# Altium footprint library CNCPowerSupply.PcbLib: 61 footprints (part 1 of 4)
Each footprint in its own frame and in the unit in brackets; x right, y up, seen from the top. Pads: shape width x height; smd on the part's side, far side on the other; paste and mask are expansions set on the pad; w line width, h text height; cw(c..) or ccw(c..) is an arc to the next point about the centre after c.
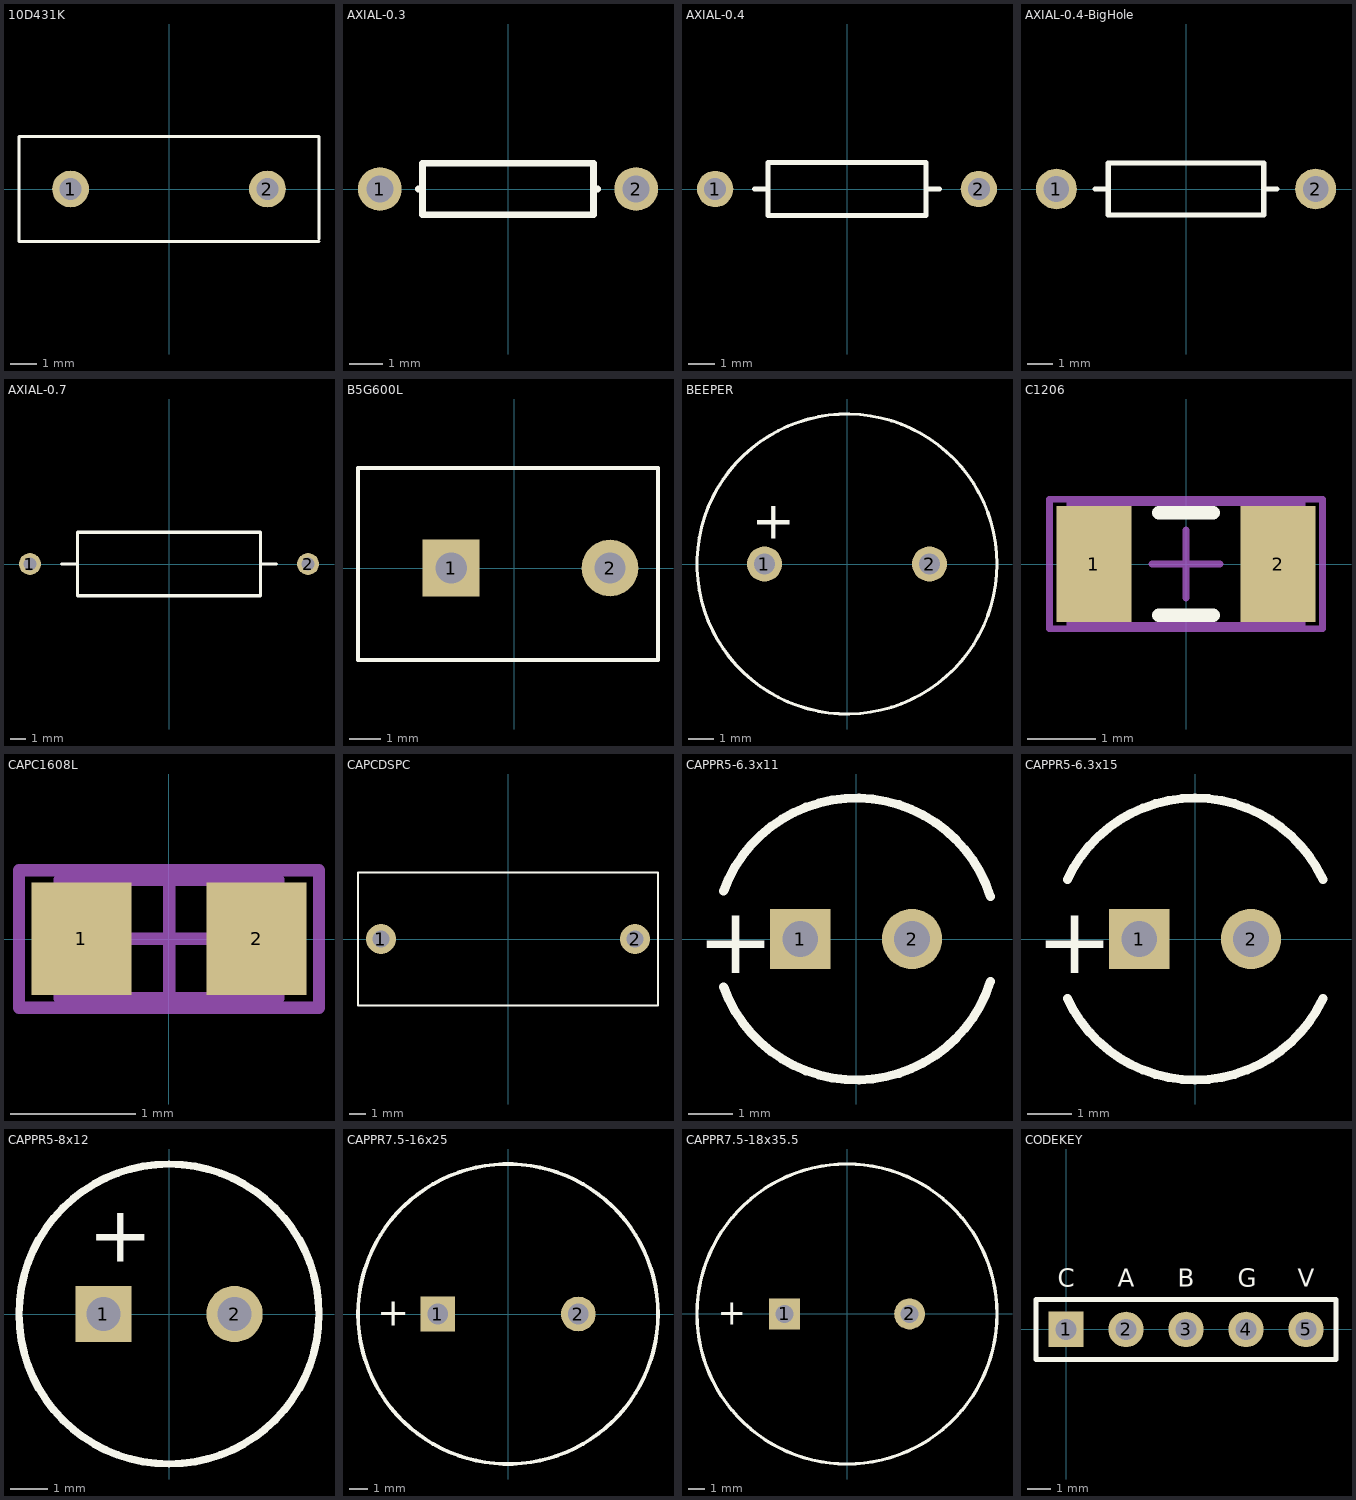
[diagram p0: the footprints below, top view; thin cyan lines are the x and y axes]

## 10D431K [mm] "10D431K"
pads (2):
  round 1.4 hole 0.85: 1(-3.75,0) 2(3.75,0)
Top Overlay:
  lines w0.127: 5.715,-2 -5.715,-2 -5.715,2 5.715,2 5.715,-1.905

## AXIAL-0.3 [mm] "Axial Device, Thru-Hole; 2 Leads; 0.3 in Pin Spacing"
height 1.524
pads (2):
  round 1.3 hole 0.8: 1(-3.81,0) 2(3.81,0)
Top Overlay:
  lines w0.2: -2.667,0 -2.54,0 ; 2.667,0 2.54,0 ; 2.54,0 2.54,-0.762 -2.54,-0.762 -2.54,0.762 2.54,0.762 2.54,0
3D body: height 2.45, standoff 0.15, extent -2.85,-1.157 2.85,1.143

## AXIAL-0.4 [mm] "Axial Device, Thru-Hole; 2 Leads; 0.4 in Pin Spacing"
height 2.032
pads (2):
  round 1.4 hole 0.85: 1(-5.08,0) 2(5.08,0)
Top Overlay:
  lines w0.2: -3.556,0 -3.048,0 ; 3.048,0 3.556,0 ; -3.048,-1.016 3.048,-1.016 3.048,1.016 -3.048,1.016 -3.048,-1.016

## AXIAL-0.4-BigHole [mm] "Axial Device, Thru-Hole; 2 Leads; 0.4 in Pin Spacing"
height 2.032
pads (2):
  round 1.6 hole 1: 1(-5.08,0) 2(5.08,0)
Top Overlay:
  lines w0.2: -3.556,0 -3.048,0 ; 3.048,0 3.556,0 ; -3.048,-1.016 3.048,-1.016 3.048,1.016 -3.048,1.016 -3.048,-1.016

## AXIAL-0.7 [mm] "Axial Device, Thru-Hole; 2 Leads; 0.7 in Pin Spacing"
height 4.064
pads (2):
  round 1.4 hole 0.85: 1(-8.89,0) 2(8.89,0)
Top Overlay:
  lines w0.2: -6.858,0 -5.842,0 ; 5.842,0 6.858,0 ; -5.842,-2.032 -5.842,2.032 5.842,2.032 5.842,-2.032 -5.842,-2.032
3D body: height 4.9, standoff 0.1, extent -7.35,-2.413 7.35,2.387

## B5G600L [mm] "B5G600L"
height 37.5
pads (2):
  rect 1.8x1.8 hole 1: 1(-2,0)
  round 1.8 hole 1: 2(3.048,0)
Top Overlay:
  lines w0.127: -4.953,-2.921 -4.953,3.175 4.572,3.175 4.572,-2.921 -4.953,-2.921
3D body: height 10, standoff 0, extent -4.905,-2.952 1.095,3.048

## BEEPER [mm] "BEEPER"
pads (2):
  round 1.4 hole 0.85: 1(-3.3,0) 2(3.3,0)
Top Overlay:
  circle w0.127: c0,0 r6
  text "+" at -3.81,1.016 h1.52

## C1206 [mm] "Chip Capacitor, Body 3.2x1.6mm, IPC High Density"
height 1.3
pads (2):
  rect 1.1x1.7 smd: 1(-1.35,0) 2(1.35,0)
Top Overlay:
  lines w0.2: -0.4,-0.75 0.4,-0.75 ; -0.4,0.75 0.4,0.75
Mechanical 13:
  lines w0.1: -1.7,-0.9 -1.7,0.9 1.7,0.9 1.7,-0.9 -1.7,-0.9
Mechanical 15:
  lines w0.1: -0.5,0 0.5,0 ; 0,-0.5 0,0.5 ; -2,-0.95 -2,0.95 2,0.95 2,-0.95 -2,-0.95
3D body: height 1.3, standoff 0, extent -1.7,-0.9 1.7,0.9

## CAPC1608L [mm] "Chip Capacitor, Body 1.6x0.8mm, IPC High Density"
height 0.85
pads (2):
  rect 0.8x0.9 smd: 1(-0.7,0) 2(0.7,0)
Mechanical 13:
  lines w0.1: -0.875,-0.475 -0.875,0.475 0.875,0.475 0.875,-0.475 -0.875,-0.475
Mechanical 15:
  lines w0.1: -0.475,0 0.475,0 ; 0,-0.475 0,0.475 ; -1.2,-0.55 -1.2,0.55 1.2,0.55 1.2,-0.55 -1.2,-0.55
3D body: height 0.85, standoff 0, extent -0.875,-0.475 0.875,0.475

## CAPCDSPC [mm] "Cap CDSPC"
height 2.54
pads (2):
  round 1.8 hole 1: 1(-7.62,0) 2(7.62,0)
Top Overlay:
  lines w0.127: -9,-4 -9,4 9,4 9,-4 -9,-4

## CAPPR5-6.3x11 [mm] "Capacitor, Electrolytic, Radial; Body 6.3 x 11 mm (Dia.xH typ); Pin Spacing 5 mm (typ)"
height 12
pads (2):
  rect 1.35x1.35 hole 0.8: 1(-1.25,0)
  round 1.35 hole 0.8: 2(1.25,0)
Top Overlay:
  lines w0.2: -2.961,-1.075 ccw(c0,0) 3.003,-0.95 ; -2.961,1.075 cw(c0,0) 3.003,0.95
  text "+" at -3.556,-0.762 h1.5
3D body: height 11, standoff 0, extent -3,-3 3,3

## CAPPR5-6.3x15 [mm] "Capacitor, Electrolytic, Radial; Body 6.3 x 15 mm (Dia.xH typ); Pin Spacing 5 mm (typ)"
height 16.5
pads (2):
  rect 1.35x1.35 hole 0.8: 1(-1.25,0)
  round 1.35 hole 0.8: 2(1.25,0)
Top Overlay:
  lines w0.2: -2.855,-1.331 ccw(c0,0) 2.855,-1.331 ; -2.855,1.331 cw(c0,0) 2.855,1.331
  text "+" at -3.556,-0.762 h1.5
3D body: height 13, standoff 0, extent -3,-3 3,3

## CAPPR5-8x12 [mm] "Capacitor, Electrolytic, Radial; Body 8 x 12 mm (Dia.xH typ); Pin Spacing 5 mm (typ)"
height 13.5
pads (2):
  rect 1.5x1.5 hole 0.9: 1(-1.75,0)
  round 1.5 hole 0.9: 2(1.75,0)
Top Overlay:
  circle w0.2: c0,0 r4
  text "+" at -2.159,1.397 h1.5
3D body: height 12, standoff 0, extent -4,-4 4,4

## CAPPR7.5-16x25 [mm] "Capacitor, Electrolytic, Radial; Body 16 x 25 mm (Dia.xH typ); Pin Spacing 7.5 mm (typ)"
height 26
pads (2):
  rect 1.85x1.85 hole 1.1: 1(-3.75,0)
  round 1.85 hole 1.1: 2(3.75,0)
Top Overlay:
  circle w0.2: c0,0 r8
  text "+" at -6.985,-0.635 h1.5
3D body: height 25, standoff 0, extent -8,-8 8,8

## CAPPR7.5-18x35.5 [mm] "Capacitor, Electrolytic, Radial; Body 18 x 35.5 mm (Dia.xH typ); Pin Spacing 7.5 mm (typ)"
height 37.5
pads (2):
  rect 1.85x1.85 hole 1.1: 1(-3.75,0)
  round 1.85 hole 1.1: 2(3.75,0)
Top Overlay:
  circle w0.2: c-0.004,-0.001 r9
  text "+" at -7.747,-0.635 h1.5
3D body: height 35.5, standoff 0, extent -9,-9 9,9

## CODEKEY [mm] "CODEKEY"
pads (5):
  rect 1.5x1.5 hole 0.9: 1(0,0)
  round 1.5 hole 0.9: 2(2.54,0) 3(5.08,0) 4(7.62,0) 5(10.16,0)
Top Overlay:
  lines w0.2: -1.27,-1.27 11.43,-1.27 11.43,1.27 -1.27,1.27 -1.27,-1.27
  text "C" at -0.346,1.813 h0.76
  text "A" at 2.194,1.813 h0.76
  text "B" at 4.734,1.813 h0.76
  text "G" at 7.274,1.813 h0.76
  text "V" at 9.814,1.813 h0.76